# EAGLE library part MAX5825 (library be_dac)
edited: Mario Blunk / Blunk electronic
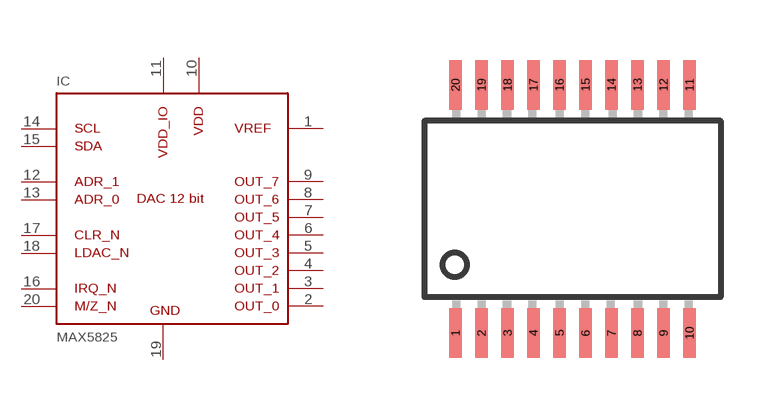
[diagram p3: symbol with the pads of S_TSSOP20; footprint S_TSSOP20]

Designator prefix IC

## MAX5825BAUP+ (BOM: YES; COMMISSIONED: 2018-07-30; PART_CODE_BEL: IC_PAC_S_TSSOP20_VAL_MAX5825BAUP+)  [S_TSSOP20]
1  VREF  pas
2  OUT_0  out
3  OUT_1  out
4  OUT_2  out
5  OUT_3  out
6  OUT_4  out
7  OUT_5  out
8  OUT_6  out
9  OUT_7  out
10  VDD  pwr
11  VDD_IO  pwr
12  ADR_1  in
13  ADR_0  in
14  SCL
15  SDA
16  IRQ_N  in
17  CLR_N  in
18  LDAC_N  in
19  GND  pwr
20  M/Z_N  in

## Footprint S_TSSOP20 (pad centres in mm)
edited: Mario Blunk / Blunk electronic date: 2018-07-30
smd 0.305 x 1.245: 1 -2.925,-3.102; 2 -2.275,-3.102; 3 -1.625,-3.102; 4 -0.975,-3.102; 5 -0.325,-3.102; 6 0.325,-3.102; 7 0.975,-3.102; 8 1.625,-3.102; 9 2.275,-3.102; 10 2.925,-3.102; 11 2.925,3.102; 12 2.275,3.102; 13 1.625,3.102; 14 0.975,3.102; 15 0.325,3.102; 16 -0.325,3.102; 17 -0.975,3.102; 18 -1.625,3.102; 19 -2.275,3.102; 20 -2.925,3.102